# EAGLE library part TLC5951 (library seb)
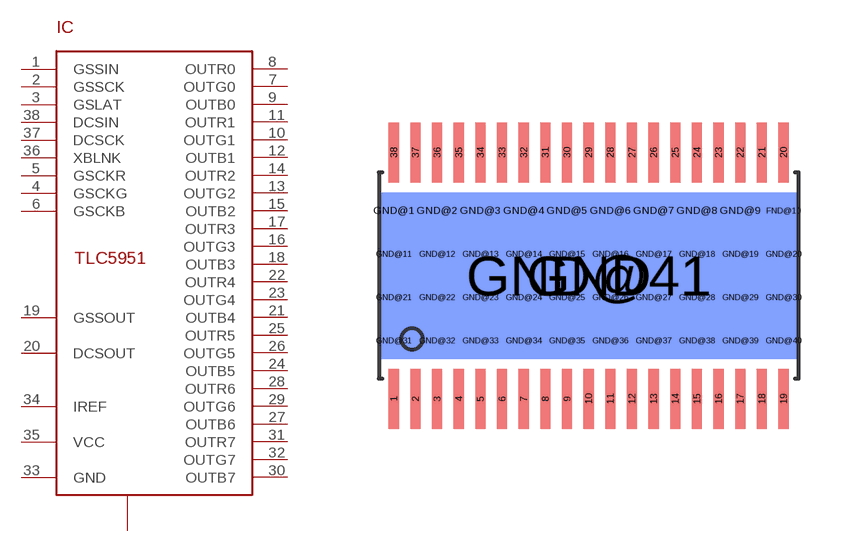
[diagram p15: symbol with the pads of POWERPAD38; footprint POWERPAD38]

Designator prefix IC

## TLC5951  [POWERPAD38]
1  GSSIN
2  GSSCK
3  GSLAT
4  GSCKG
5  GSCKR
6  GSCKB
7  OUTG0
8  OUTR0
9  OUTB0
10  OUTG1
11  OUTR1
12  OUTB1
13  OUTG2
14  OUTR2
15  OUTB2
16  OUTG3
17  OUTR3
18  OUTB3
19  GSSOUT
20  DCSOUT
21  OUTB4
22  OUTR4
23  OUTG4
24  OUTB5
25  OUTR5
26  OUTG5
27  OUTB6
28  OUTR6
29  OUTG6
30  OUTB7
31  OUTR7
32  OUTG7
33  GND
34  IREF
35  VCC
36  XBLNK
37  DCSCK
38  DCSIN
FND@10  GND
GND  GND
GND@1  GND
GND@2  GND
GND@3  GND
GND@4  GND
GND@5  GND
GND@6  GND
GND@7  GND
GND@8  GND
GND@9  GND
GND@11  GND
GND@12  GND
GND@13  GND
GND@14  GND
GND@15  GND
GND@16  GND
GND@17  GND
GND@18  GND
GND@19  GND
GND@20  GND
GND@21  GND
GND@22  GND
GND@23  GND
GND@24  GND
GND@25  GND
GND@26  GND
GND@27  GND
GND@28  GND
GND@29  GND
GND@30  GND
GND@31  GND
GND@32  GND
GND@33  GND
GND@34  GND
GND@35  GND
GND@36  GND
GND@37  GND
GND@38  GND
GND@39  GND
GND@40  GND
GND@41  GND

## Footprint POWERPAD38 (pad centres in mm)
smd 0.305 x 1.8: 1 -5.85,-3.7; 2 -5.2,-3.7; 3 -4.55,-3.7; 4 -3.9,-3.7; 5 -3.25,-3.7; 6 -2.6,-3.7; 7 -1.95,-3.7; 8 -1.3,-3.7; 9 -0.65,-3.7; 10 0,-3.7; 11 0.65,-3.7; 12 1.3,-3.7; 13 1.95,-3.7; 14 2.6,-3.7; 15 3.25,-3.7; 16 3.9,-3.7; 17 4.55,-3.7; 18 5.2,-3.7; 19 5.85,-3.7; 20 5.85,3.7; 21 5.2,3.7; 22 4.55,3.7; 23 3.9,3.7; 24 3.25,3.7; 25 2.6,3.7; 26 1.95,3.7; 27 1.3,3.7; 28 0.65,3.7; 29 0,3.7; 30 -0.65,3.7; 31 -1.3,3.7; 32 -1.95,3.7; 33 -2.6,3.7; 34 -3.25,3.7; 35 -3.9,3.7; 36 -4.55,3.7; 37 -5.2,3.7; 38 -5.85,3.7
drill 0.33 square: FND@10 5.85,1.95; GND@1 -5.85,1.95; GND@2 -4.55,1.95; GND@3 -3.25,1.95; GND@4 -1.95,1.95; GND@5 -0.65,1.95; GND@6 0.65,1.95; GND@7 1.95,1.95; GND@8 3.25,1.95; GND@9 4.55,1.95; GND@11 -5.85,0.65; GND@12 -4.55,0.65; GND@13 -3.25,0.65; GND@14 -1.95,0.65; GND@15 -0.65,0.65; GND@16 0.65,0.65; GND@17 1.95,0.65; GND@18 3.25,0.65; GND@19 4.55,0.65; GND@20 5.85,0.65; GND@21 -5.85,-0.65; GND@22 -4.55,-0.65; GND@23 -3.25,-0.65; GND@24 -1.95,-0.65; GND@25 -0.65,-0.65; GND@26 0.65,-0.65; GND@27 1.95,-0.65; GND@28 3.25,-0.65; GND@29 4.55,-0.65; GND@30 5.85,-0.65; GND@31 -5.85,-1.95; GND@32 -4.55,-1.95; GND@33 -3.25,-1.95; GND@34 -1.95,-1.95; GND@35 -0.65,-1.95; GND@36 0.65,-1.95; GND@37 1.95,-1.95; GND@38 3.25,-1.95; GND@39 4.55,-1.95; GND@40 5.85,-1.95
smd 12.5 x 5: GND 0,0
smd 12.5 x 5 bottom: GND@41 0,0